# Altium footprint library droneLib.PcbLib: 6 footprints
Each footprint in its own frame and in the unit in brackets; x right, y up, seen from the top. Pads: shape width x height; smd on the part's side, far side on the other; paste and mask are expansions set on the pad; w line width, h text height; cw(c..) or ccw(c..) is an arc to the next point about the centre after c.
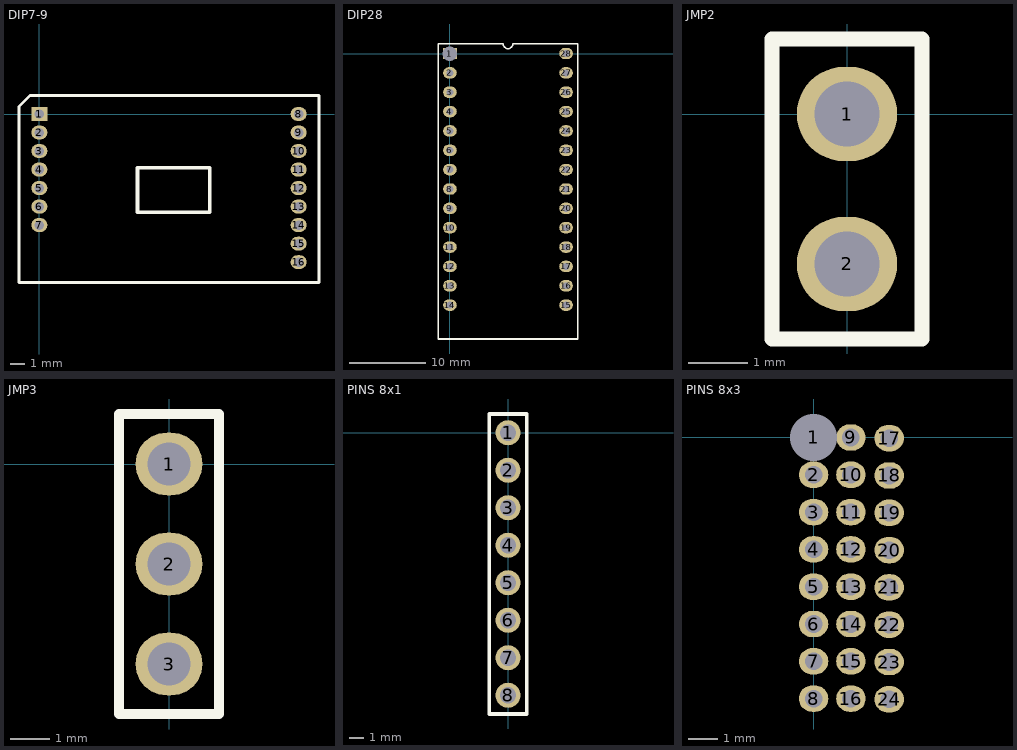
[diagram p0: the footprints below, top view; thin cyan lines are the x and y axes]

## DIP7-9 [mm]
pads (16):
  rect 1.1x0.95 hole 0.65: 1(0,0)
  oval 1.1x0.95 hole 0.65: 2(0,-1.27) 3(0,-2.54) 4(0,-3.81) 5(0,-5.08) 6(0,-6.35) 7(0,-7.62) 8(17.78,0) 9(17.78,-1.27) 10(17.78,-2.54) 11(17.78,-3.81) 12(17.78,-5.08) 13(17.78,-6.35) 14(17.78,-7.62) 15(17.78,-8.89) 16(17.78,-10.16)
Top Overlay:
  lines w0.2: -1.397,-11.557 19.177,-11.557 19.177,1.27 9.144,1.27 -0.635,1.27 -1.397,0.508 -1.397,-11.557
  lines w0.254: 6.731,-6.731 11.684,-6.731 11.684,-3.683 6.731,-3.683 6.731,-6.731

## DIP28 [mm]
pads (28):
  rect 1.8x1.5 hole 1.9: 1(0,0)
  oval 1.8x1.5 hole 0.9: 2(0,-2.54) 3(0,-5.08) 4(0,-7.62) 5(0,-10.16) 6(0,-12.7) 7(0,-15.24) 8(0,-17.78) 9(0,-20.32) 10(0,-22.86) 11(0,-25.4) 12(0,-27.94) 13(0,-30.48) 14(0,-33.02) 15(15.24,-33.02) 16(15.24,-30.48) 17(15.24,-27.94) 18(15.24,-25.4) 19(15.24,-22.86) 20(15.24,-20.32) 21(15.24,-17.78) 22(15.24,-15.24) 23(15.24,-12.7) 24(15.24,-10.16) 25(15.24,-7.62) 26(15.24,-5.08) 27(15.24,-2.54) 28(15.24,0)
Top Overlay:
  lines w0.2: -1.524,-37.465 -1.524,1.27 6.985,1.27 ccw(c7.62,1.27) 8.255,1.27 16.764,1.27 16.764,-37.465 -1.524,-37.465

## JMP2 [mm]
pads (2):
  oval 1.7x1.6 hole 1.1: 1(0,0) 2(0,-2.54)
Top Overlay:
  lines w0.254: -1.27,-3.81 1.27,-3.81 1.27,1.27 -1.27,1.27 -1.27,-3.81

## JMP3 [mm]
pads (3):
  oval 1.7x1.6 hole 1.1: 1(0,0) 2(0,-2.54) 3(0,-5.08)
Top Overlay:
  lines w0.254: -1.27,-6.35 1.27,-6.35 1.27,1.27 -1.27,1.27 -1.27,-6.35

## PINS 8x1 [mm]
pads (8):
  round 1.7 hole 1.1: 1(0,0) 2(0,-2.54) 3(0,-5.08) 4(0,-7.62) 5(0,-10.16) 6(0,-12.7) 7(0,-15.24) 8(0,-17.78)
Top Overlay:
  lines w0.254: -1.27,-19.05 -1.27,1.27 1.27,1.27 1.27,-19.05 -1.27,-19.05

## PINS 8x3 [mm]
pads (24):
  oval 1x0.9 hole 1.6: 1(0,0)
  oval 1x0.9 hole 0.6: 2(0,-1.27) 3(0,-2.54) 4(0,-3.81) 5(0,-5.08) 6(0,-6.35) 7(0,-7.62) 8(0,-8.89) 9(1.27,0) 10(1.27,-1.27) 11(1.27,-2.54) 12(1.27,-3.81) 13(1.27,-5.08) 14(1.27,-6.35) 15(1.27,-7.62) 16(1.27,-8.89) 17(2.573,-0.023) 18(2.573,-1.293) 19(2.573,-2.563) 20(2.573,-3.833) 21(2.573,-5.103) 22(2.573,-6.373) 23(2.573,-7.643) 24(2.573,-8.913)